# EAGLE library part NCV5183DR2G (library ruark2)
Half-Bridge Gate Driver IC Non-Inverting 8-SOIC 4.3A
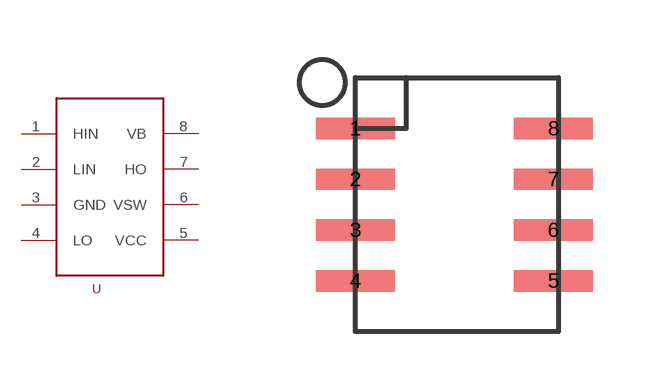
[diagram p32: symbol with the pads of SOIC8; footprint SOIC8]

Designator prefix U

## NCV5183DR2G (PARTNO: NCV5183DR2GOSCT-ND)  [SOIC8]
1  HIN
2  LIN
3  GND
4  LO
5  VCC
6  VSW
7  HO
8  VB

## Footprint SOIC8 (pad centres in mm)
smd 1.981 x 0.533: 1 -2.477,1.905; 2 -2.477,0.635; 3 -2.477,-0.635; 4 -2.477,-1.905; 5 2.477,-1.905; 6 2.477,-0.635; 7 2.477,0.635; 8 2.477,1.905